# Altium schematic symbol library aiskylab-14Connectors-05Modular-ETH-Con.SchLib: 3 symbols
Pins are listed as number, name and electrical type; pins without a type are passive.

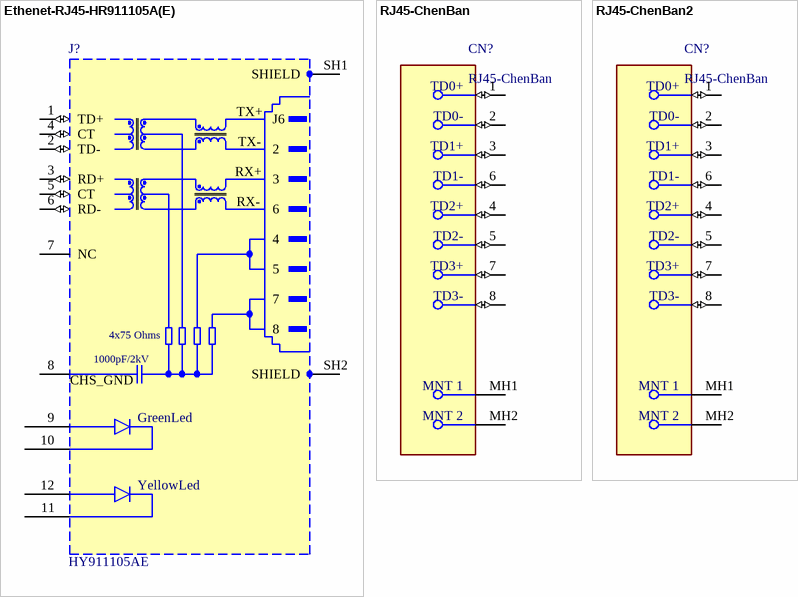
[diagram p0: symbols Ethenet-RJ45-HR911105A(E) to RJ45-ChenBan2]

## Ethenet-RJ45-HR911105A(E)
designator J?, comment HY911105AE
内部集成变压器和黄绿LED的网口变压器 / HY911105A为商业级 / HY911105AE为工业级
footprint HR911105A
pins: 1 TD+ (io), 2 TD- (io), 3 RD+ (io), 4 CT (io), 5 CT (io), 6 RD- (io), 7 NC, 8 CHS_GND (power), 9, 10, 11, 12, SH1 SHIELD (power), SH2 SHIELD (power)
text: TX+; J6; TX-; RX+; RX-; 4x75 Ohms; 1000pF/2kV; GreenLed; YellowLed

## RJ45-ChenBan
designator CN?
footprint RJ45-ChenBan (松下平板电脑沉板网口连接器)
pins: 1 TD0+ (io), 2 TD0- (io), 3 TD1+ (io), 4 TD2+ (io), 5 TD2- (io), 6 TD1- (io), 7 TD3+ (io), 8 TD3- (io), MH1 MNT 1, MH2 MNT 2

## RJ45-ChenBan2
designator CN?, comment RJ45-ChenBan
footprint RJ45-ChenBan2 (松下平板电脑沉板网口连接器)
pins: 1 TD0+ (io), 2 TD0- (io), 3 TD1+ (io), 4 TD2+ (io), 5 TD2- (io), 6 TD1- (io), 7 TD3+ (io), 8 TD3- (io), MH1 MNT 1, MH2 MNT 2